# EAGLE library part STM32L021F4U6TR (library circuit_tree)
IC
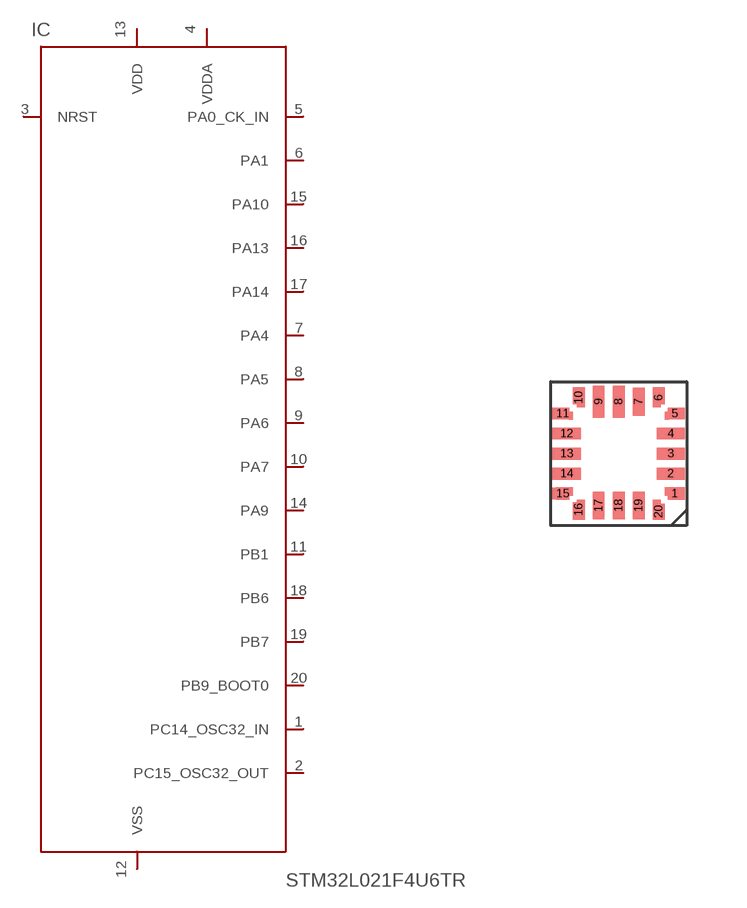
[diagram p5: symbol with the pads of UFQFPN20; footprint UFQFPN20]

Designator prefix IC

## STM32L021F4U6TR  [UFQFPN20]
1  PC14_OSC32_IN  pas
2  PC15_OSC32_OUT  pas
3  NRST  pas
4  VDDA  pas
5  PA0_CK_IN  pas
6  PA1  pas
7  PA4  pas
8  PA5  pas
9  PA6  pas
10  PA7  pas
11  PB1  pas
12  VSS  pas
13  VDD  pas
14  PA9  pas
15  PA10  pas
16  PA13  pas
17  PA14  pas
18  PB6  pas
19  PB7  pas
20  PB9_BOOT0  pas

## Footprint UFQFPN20 (pad centres in mm)
smd 0.35 x 0.3: 1 0.1,0; 5 0.1,2; 11 -2.7,2; 15 -2.7,0
smd 0.7 x 0.3: 2 0,0.5; 3 0,1; 4 0,1.5; 12 -2.6,1.5; 13 -2.6,1; 14 -2.6,0.5
smd 0.3 x 0.35: 6 -0.3,2.4; 10 -2.3,2.4; 16 -2.3,-0.4; 20 -0.3,-0.45
smd 0.3 x 0.7: 7 -0.8,2.3; 17 -1.8,-0.3; 18 -1.3,-0.3; 19 -0.8,-0.3
smd 0.3 x 0.8: 8 -1.3,2.3; 9 -1.8,2.3